# Altium footprint library PcbLib1.PcbLib: 8 footprints
Each footprint in its own frame and in the unit in brackets; x right, y up, seen from the top. Pads: shape width x height; smd on the part's side, far side on the other; paste and mask are expansions set on the pad; w line width, h text height; cw(c..) or ccw(c..) is an arc to the next point about the centre after c.
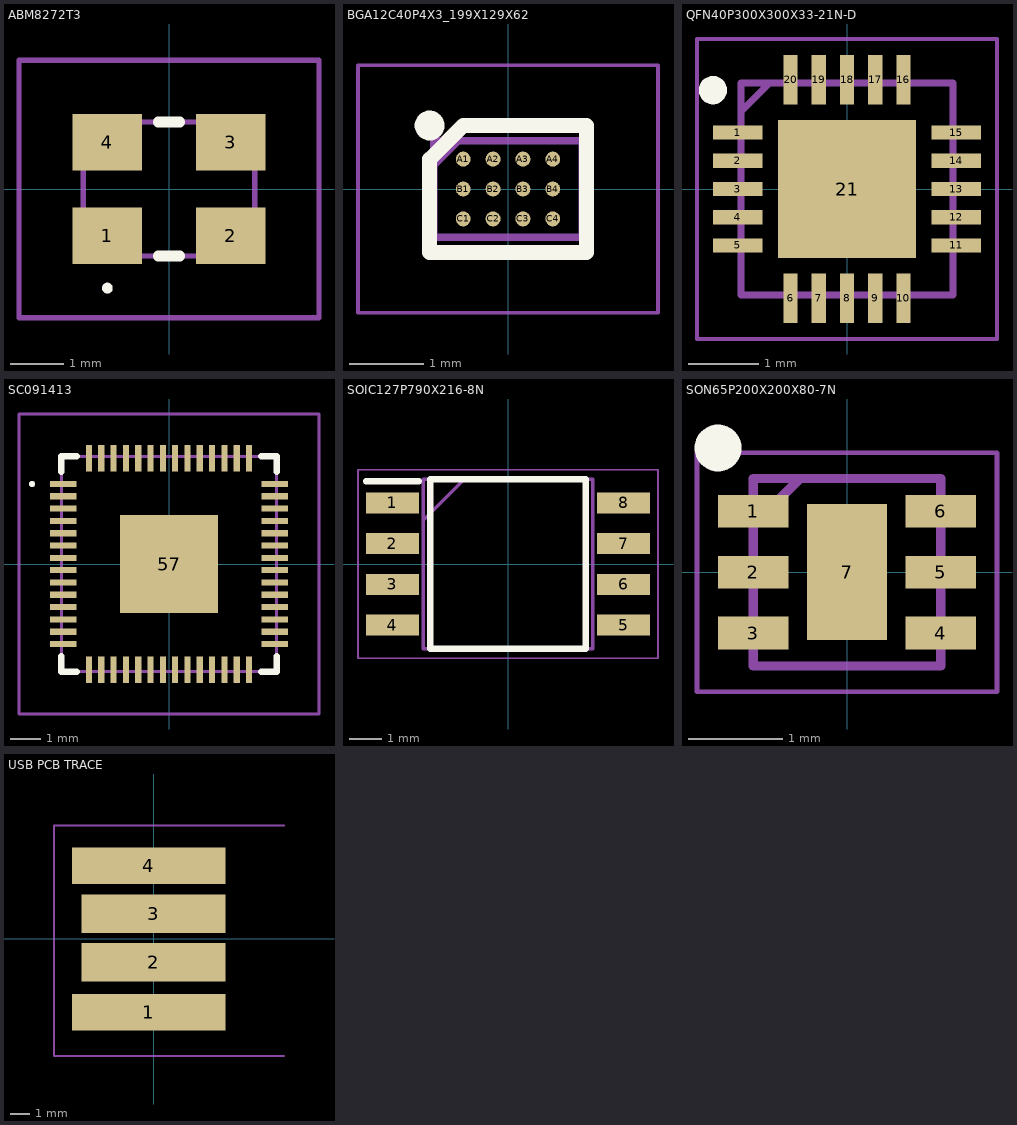
[diagram p0: the footprints below, top view; thin cyan lines are the x and y axes]

## ABM8272T3 [mm]
pads (4):
  rect 1.3x1.05 smd: 1(-1.15,-0.875) 2(1.15,-0.875) 3(1.15,0.875) 4(-1.15,0.875)
Top Overlay:
  lines w0.1: -1.15,-1.9 ccw(c-1.15,-1.85) -1.15,-1.8 ccw(c-1.15,-1.85) -1.15,-1.9
  lines w0.2: -0.2,-1.25 0.2,-1.25 ; -0.2,1.25 0.2,1.25
Mechanical 13:
  lines w0.1: -1.6,-1.25 1.6,-1.25 1.6,1.25 -1.6,1.25 -1.6,-1.25
Mechanical 15:
  lines w0.1: -2.8,-2.4 2.8,-2.4 2.8,2.4 -2.8,2.4 -2.8,-2.4
3D body "ABM8-272-T3.stp": height 0.75, standoff 0, extent -1.6,-1.25 1.6,1.25

## BGA12C40P4X3_199X129X62 [mm]
pads (12):
  round 0.2 smd: A1(-0.6,0.4) A2(-0.2,0.4) A3(0.2,0.4) A4(0.6,0.4) B1(-0.6,0) B2(-0.2,0) B3(0.2,0) B4(0.6,0) C1(-0.6,-0.4) C2(-0.2,-0.4) C3(0.2,-0.4) C4(0.6,-0.4)
Top Overlay:
  circle w0.2: c-1.05,0.85 r0.1
  lines w0.2: -1.05,-0.85 -1.05,0.4 -0.6,0.85 1.05,0.85 1.05,-0.85 -1.05,-0.85
Mechanical 13:
  lines w0.1: -0.995,0.315 -0.665,0.645 ; -0.995,-0.645 -0.995,0.645 0.995,0.645 0.995,-0.645 -0.995,-0.645
Mechanical 15:
  lines w0.05: -2.01,-1.66 -2.01,1.66 2.01,1.66 2.01,-1.66 -2.01,-1.66
3D body "TPD1S514-1YZR.stp": height 0.63, standoff 0, extent -0.995,-0.645 0.995,0.645

## PCBComponent_1 [mm]

## QFN40P300X300X33-21N-D [mm]
pads (21):
  rect 0.7x0.2 smd: 1(-1.55,0.8) 2(-1.55,0.4) 3(-1.55,0) 4(-1.55,-0.4) 5(-1.55,-0.8) 11(1.55,-0.8) 12(1.55,-0.4) 13(1.55,0) 14(1.55,0.4) 15(1.55,0.8)
  rect 0.2x0.7 smd: 6(-0.8,-1.55) 7(-0.4,-1.55) 8(0,-1.55) 9(0.4,-1.55) 10(0.8,-1.55) 16(0.8,1.55) 17(0.4,1.55) 18(0,1.55) 19(-0.4,1.55) 20(-0.8,1.55)
  rect 1.95x1.95 smd: 21(0,0)
Top Overlay:
  circle w0.2: c-1.9,1.4 r0.1
Mechanical 13:
  lines w0.1: -1.5,1.1 -1.1,1.5 ; -1.5,-1.5 -1.5,1.5 1.5,1.5 1.5,-1.5 -1.5,-1.5
Mechanical 15:
  lines w0.05: -2.125,-2.125 -2.125,2.125 2.125,2.125 2.125,-2.125 -2.125,-2.125
3D body "SE050E2HQ1_Z01Z3Z.stp": height 0.33, standoff 0, extent -1.55,-1.55 1.55,1.55

## SC091413 [mm]
pads (57):
  rect 0.875x0.2 smd: 1(-3.438,2.6) 2(-3.438,2.2) 3(-3.438,1.8) 4(-3.438,1.4) 5(-3.438,1) 6(-3.438,0.6) 7(-3.438,0.2) 8(-3.438,-0.2) 9(-3.438,-0.6) 10(-3.438,-1) 11(-3.438,-1.4) 12(-3.438,-1.8) 13(-3.438,-2.2) 14(-3.438,-2.6) 29(3.438,-2.6) 30(3.438,-2.2) 31(3.438,-1.8) 32(3.438,-1.4) 33(3.438,-1) 34(3.438,-0.6) 35(3.438,-0.2) 36(3.438,0.2) 37(3.438,0.6) 38(3.438,1) 39(3.438,1.4) 40(3.438,1.8) 41(3.438,2.2) 42(3.438,2.6)
  rect 0.2x0.875 smd: 15(-2.6,-3.438) 16(-2.2,-3.438) 17(-1.8,-3.438) 18(-1.4,-3.438) 19(-1,-3.438) 20(-0.6,-3.438) 21(-0.2,-3.438) 22(0.2,-3.438) 23(0.6,-3.438) 24(1,-3.438) 25(1.4,-3.438) 26(1.8,-3.438) 27(2.2,-3.438) 28(2.6,-3.438) 43(2.6,3.438) 44(2.2,3.438) 45(1.8,3.438) 46(1.4,3.438) 47(1,3.438) 48(0.6,3.438) 49(0.2,3.438) 50(-0.2,3.438) 51(-0.6,3.438) 52(-1,3.438) 53(-1.4,3.438) 54(-1.8,3.438) 55(-2.2,3.438) 56(-2.6,3.438)
  rect 3.2x3.2 smd: 57(0,0)
Top Overlay:
  lines w0.1: -4.5,2.6 cw(c-4.45,2.6) -4.4,2.6 cw(c-4.45,2.6) -4.5,2.6
  lines w0.2: -3.5,-3 -3.5,-3.5 -3,-3.5 ; -3.5,3 -3.5,3.5 -3,3.5 ; 3,-3.5 3.5,-3.5 3.5,-3 ; 3,3.5 3.5,3.5 3.5,3
Mechanical 13:
  lines w0.1: -3.5,-3.5 -3.5,3.5 3.5,3.5 3.5,-3.5 -3.5,-3.5
Mechanical 15:
  lines w0.1: -4.875,-4.875 -4.875,4.875 4.875,4.875 4.875,-4.875 -4.875,-4.875
3D body "SC0914_13_.stp": height 0.92, standoff 0, extent -3.501,-3.501 3.501,3.501

## SOIC127P790X216-8N [mm]
pads (8):
  rect 1.65x0.65 smd: 1(-3.6,1.905) 2(-3.6,0.635) 3(-3.6,-0.635) 4(-3.6,-1.905) 5(3.6,-1.905) 6(3.6,-0.635) 7(3.6,0.635) 8(3.6,1.905)
Top Overlay:
  lines w0.2: -4.425,2.58 -2.775,2.58 ; -2.425,-2.64 -2.425,2.64 2.425,2.64 2.425,-2.64 -2.425,-2.64
Mechanical 13:
  lines w0.1: -2.64,1.37 -1.37,2.64 ; -2.64,-2.64 -2.64,2.64 2.64,2.64 2.64,-2.64 -2.64,-2.64
Mechanical 15:
  lines w0.05: -4.675,-2.94 -4.675,2.94 4.675,2.94 4.675,-2.94 -4.675,-2.94
3D body "W25Q32JVSSIM_TR.stp": height 2.16, standoff 0, extent -3.95,-2.64 3.95,2.64

## SON65P200X200X80-7N [mm]
pads (7):
  rect 0.75x0.35 smd: 1(-1,0.65) 2(-1,0) 3(-1,-0.65) 4(1,-0.65) 5(1,0) 6(1,0.65)
  rect 0.85x1.45 smd: 7(0,0)
Top Overlay:
  circle w0.25: c-1.375,1.325 r0.125
Mechanical 13:
  lines w0.1: -1,0.5 -0.5,1 ; -1,-1 -1,1 1,1 1,-1 -1,-1
Mechanical 15:
  lines w0.05: -1.6,-1.275 -1.6,1.275 1.6,1.275 1.6,-1.275 -1.6,-1.275
3D body "RT9013-33GQW.stp": height 0.8, standoff 0, extent -1.05,-1 1.05,1

## USB PCB TRACE [mm] "USB TYPE A on PCB TRACE"
pads (4):
  rect 8x1.9 smd: 1(-0.254,-3.815) 4(-0.254,3.81)
  rect 7.5x2 smd: 2(-0.004,-1.223) 3(-0.004,1.318)
Board Edge:
  lines w0.1: 6.793,-6.096 -5.207,-6.096 -5.207,5.903 6.794,5.903